# Altium schematic symbol library huan_basic.SchLib: 79 symbols
Pins are listed as number, name and electrical type; pins without a type are passive.

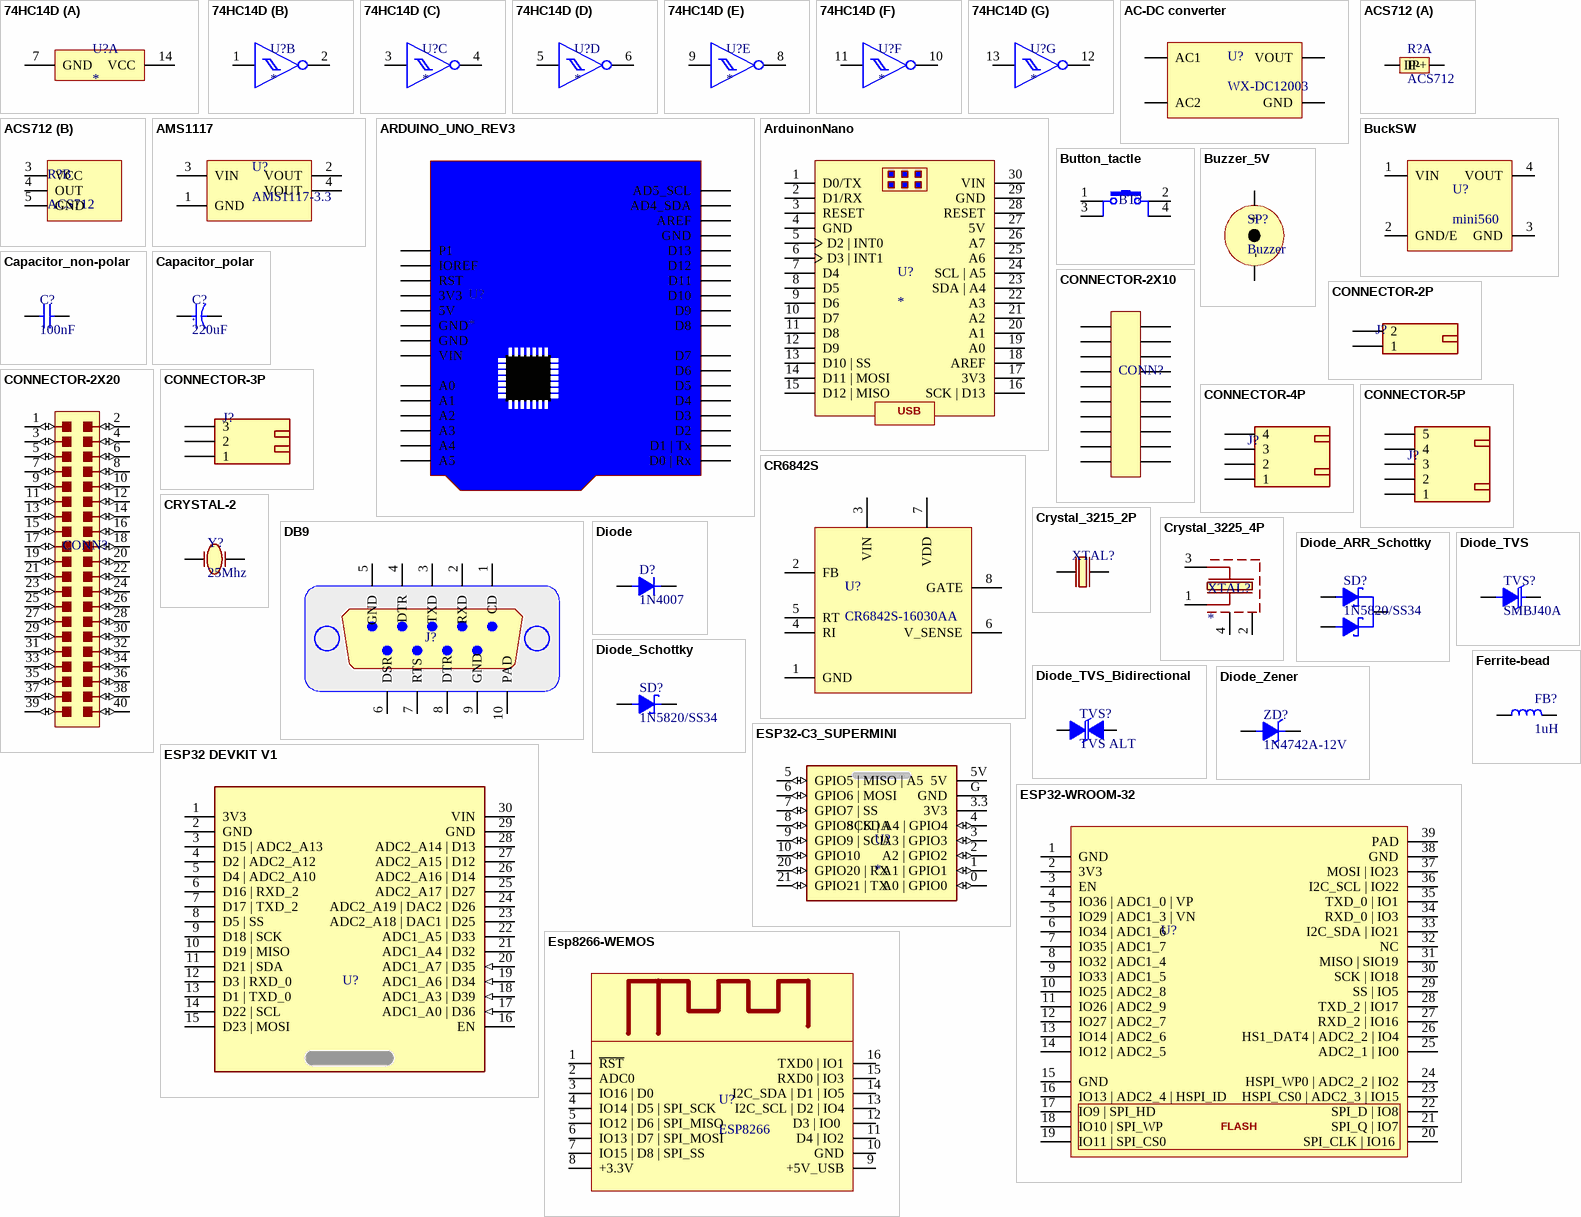
[diagram p0: symbols 74HC14D to Ferrite-bead]

## 74HC14D
designator U?
Inverter IC 6 Channel Schmitt Trigger 14-SOIC; MF: Toshiba; MP: 74HC14D; SnapEDA_Link: https://www.snapeda.com/parts/74HC14D/Toshiba+Semiconductor+and+Storage/view-part/?ref=snap; Availability: In Stock; Price: None; Package: SO14-14 Nexperia USA Inc.; Purchase-URL: https://pricing.snapeda.com/search/part/74HC14D/?ref=eda; Check_prices: https://www.snapeda.com/parts/74HC14D/Toshiba+Semiconductor+and+Storage/view-part/?ref=eda; Value: *
footprint SO14
part A pins: 7 GND, 14 VCC (power)
part B pins: 1 1A (power), 2 1Y (power)
part C pins: 3 2A (power), 4 2Y (power)
part D pins: 5 3A (power), 6 3Y (power)
part E pins: 8 4Y (power), 9 4A (power)
part F pins: 10 5Y (power), 11 5A (power)
part G pins: 12 6Y (power), 13 6A (power)

## AC-DC converter
designator U?, comment WX-DC12003
footprint WX-DC12003
pins: 1 AC1, 2 AC2, 3 GND, 4 VOUT

## ACS712
designator R?
footprint ACS712
part A pins: 1 IP+, 2 IP-
part B pins: 3 VCC, 4 OUT, 5 GND

## AMS1117
designator U?, comment AMS1117-3.3
footprint SOT223
pins: 1 GND, 2 VOUT, 3 VIN, 4 VOUT

## ARDUINO_UNO_REV3
designator U?
Microcontroller board based on the ATmega328P.; MF: Arduino; MP: ARDUINO UNO REV3; SnapEDA_Link: https://www.snapeda.com/parts/ARDUINO%20UNO%20REV3/Arduino/view-part/?ref=snap; Package: Non-Standard Arduino; Value: *; Check_prices: https://www.snapeda.com/parts/ARDUINO%20UNO%20REV3/Arduino/view-part/?ref=eda
footprint ARDUINO_ARDUINO_UNO_REV3
pins: 3V3 (power), 5V (power), A0 (power), A1 (power), A2 (power), A3 (power), A4 (power), A4_SDA AD4_SDA (power), A5 (power), A5_SCL AD5_SCL (power), AREF (power), D0 D0 | Rx (power), D1 D1 | Tx (power), D2 (power), D3 (power), D4 (power), D5 (power), D6 (power), D7 (power), D8 (power), D9 (power), D10 (power), D11 (power), D12 (power), D13 (power), GND_1 GND (power), GND_2 GND (power), GND_3 GND (power), IOREF (power), P1 (power), RST (power), VIN (power)

## ArduinonNano
designator U?
Small, complete, and breadboard-friendly board based on the ATmega328 (Arduino Nano 3.x).; MP: A000005; Check_prices: https://www.snapeda.com/parts/A000005/Arduino/view-part/?ref=eda; Value: *; Availability: In Stock; Price: None; Package: Non-Standard Arduino; SnapEDA_Link: https://www.snapeda.com/parts/A000005/Arduino/view-part/?ref=snap; Purchase-URL: https://pricing.snapeda.com/search/part/A000005/?ref=eda; MF: Arduino
footprint ARDUINO-NANO
pins: 1 D0/TX (power), 2 D1/RX (power), 3 RESET (power), 4 GND (power), 5 D2 | INT0 (power), 6 D3 | INT1 (oc), 7 D4 (power), 8 D5 (oc), 9 D6 (oc), 10 D7 (power), 11 D8 (power), 12 D9 (oc), 13 D10 | SS (oc), 14 D11 | MOSI (oc), 15 D12 | MISO (power), 16 SCK | D13 (power), 17 3V3 (power), 18 AREF (power), 19 A0 (power), 20 A1 (power), 21 A2 (power), 22 A3 (power), 23 SDA | A4 (power), 24 SCL | A5 (power), 25 A6 (power), 26 A7 (power), 27 5V (power), 28 RESET (power), 29 GND (power), 30 VIN (power)
text: USB

## BuckSW
designator U?, comment mini560
footprint BUCK-20V-3A
footprint mini560
pins: 1 VIN, 2 GND/E, 3 GND, 4 VOUT

## Button_tactle
designator BT?
footprint BUTTON-12X12MM
footprint BUTTON 6X6 SMD
pins: 1, 2, 3, 4

## Buzzer_5V
designator SP?, comment Buzzer
footprint Buzzer
pins: 1 +, 2 -

## Capacitor_non-polar
designator C?, comment 100nF
footprint C0603
footprint C1206
footprint C0805
footprint CAPACITOR-X2_10MM
footprint CAP-HV
footprint C1812
pins: 1, 2

## Capacitor_polar
designator C?, comment 220uF
footprint CAP-TH-6.3MM
footprint CAP-TH-8MM
footprint CAP-TH-10MM
footprint CAP-SMD-6.3MM
footprint CAP-SMD-8MM
footprint CAP-SMD-10MM
footprint CAP-TH-16MM
footprint C2917
pins: 1, 2
text: +

## CONNECTOR-2P
designator J?
footprint KF5.08-2P
footprint TERMINAL-7.62-2
footprint TERMINAL-5.08-2
pins: 1, 2

## CONNECTOR-2X10
designator CONN?
footprint 2.54 2x10
pins: 1 (power), 2 (power), 3 (power), 4 (power), 5 (power), 6 (power), 7 (power), 8 (power), 9 (power), 10 (power), 11 (power), 12 (power), 13 (power), 14 (power), 15 (power), 16 (power), 17 (power), 18 (power), 19 (power), 20 (power)

## CONNECTOR-2X20
designator CONN?
footprint 2.54 2x20
pins: 1 (io), 2 (io), 3 (io), 4 (io), 5 (io), 6 (io), 7 (io), 8 (io), 9 (io), 10 (io), 11 (io), 12 (io), 13 (io), 14 (io), 15 (io), 16 (io), 17 (io), 18 (io), 19 (io), 20 (io), 21 (io), 22 (io), 23 (io), 24 (io), 25 (io), 26 (io), 27 (io), 28 (io), 29 (io), 30 (io), 31 (io), 32 (io), 33 (io), 34 (io), 35 (io), 36 (io), 37 (io), 38 (io), 39 (io), 40 (io)

## CONNECTOR-3P
designator J?  (value not drawn)
footprint KF5.08-3p
footprint XH-2.54-3-V
footprint ED5.08-3P
pins: 1, 2, 3

## CONNECTOR-4P
designator J?
footprint XH-2.54-4-R
footprint CH-3.96-4-V
pins: 1, 2, 3, 4

## CONNECTOR-5P
designator J?
footprint XH-2.54-5-R
pins: 1, 2, 3, 4, 5

## CR6842S
designator U?, comment CR6842S-16030AA
footprint SOP-8
pins: 1 GND, 2 FB, 3 VIN, 4 RI, 5 RT, 6 V_SENSE, 7 VDD, 8 GATE

## CRYSTAL-2
designator Y?, comment 25Mhz
footprint HC49-SMD
pins: 1, 2

## Crystal_3215_2P
designator XTAL?  (value not drawn)
LOW FREQUENCY CRYSTAL; MF: Micro Crystal; MP: CM7V-T1A-LOW-ESR-32.768KHZ-12.5PF-20-TA-QC; Package: SMD-2 Micro Crystal; Value: *; Check_prices: https://www.snapeda.com/parts/CM7V-T1A-LOW-ESR-32.768KHZ-12.5PF-20-TA-QC/Micro+Crystal/view-part/?ref=eda; SnapEDA_Link: https://www.snapeda.com/parts/CM7V-T1A-LOW-ESR-32.768KHZ-12.5PF-20-TA-QC/Micro+Crystal/view-part/?ref=snap; Availability: In Stock; Purchase-URL: https://pricing.snapeda.com/search/part/CM7V-T1A-LOW-ESR-32.768KHZ-12.5PF-20-TA-QC/?ref=eda; Price: None
footprint XTAL 2P 3215
pins: 1, 2

## Crystal_3225_4P
designator XTAL?
25 MHz Â±10ppm Crystal 18pF 40 Ohms 4-SMD, No Lead; MP: TSX-3225 25.0000MF10P-C0; MF: EPSON; Purchase-URL: https://pricing.snapeda.com/search/part/TSX-3225 25.0000MF10P-C0/?ref=eda; Package: SMD-4 EPSON; Value: *; Availability: In Stock; Price: None; SnapEDA_Link: https://www.snapeda.com/parts/TSX-3225%2025.0000MF10P-C0/EPSON/view-part/?ref=snap; Check_prices: https://www.snapeda.com/parts/TSX-3225%2025.0000MF10P-C0/EPSON/view-part/?ref=eda
footprint XTAL 4P 3225
pins: 1, 2 GND (power), 3 2, 4 GND (power)

## DB9
designator J?, comment DB9 connector  (value not drawn)
footprint DB9
pins: 1 CD, 2 RXD, 3 TXD, 4 DTR, 5 GND, 6 DSR, 7 RTS, 8 DTR, 9 GND, 10 PAD

## Diode
designator D?, comment 1N4007
footprint SOD-123F
footprint LL-34(MiniMELF)
footprint DO-214AC(SMA)
footprint DO-214AB(SMC)
footprint DO-41_V
footprint R-6
footprint DO-2A
footprint SOD-123
footprint SOD-323
pins: 1 A, 2 K

## Diode_ARR_Schottky
designator SD?, comment 1N5820/SS34
footprint TO-252-2
pins: 1 A, 2 K, 3 A

## Diode_Schottky
designator SD?, comment 1N5820/SS34
footprint SOD-123F
footprint DO-214AC(SMA)
footprint DO-214AB(SMC)
pins: 1 A, 2 K

## Diode_TVS
designator TVS?, comment SMBJ40A
footprint DO-214AC(SMA)
footprint DO-214AB(SMC)
footprint SOD-323
footprint SOD-123
pins: 1 A, 2 K

## Diode_TVS_Bidirectional
designator TVS?, comment TVS ALT
footprint DO-214AC(SMA)
footprint DO-214AB(SMC)
footprint SOD-323
pins: 1 A, 2 K

## Diode_Zener
designator ZD?, comment 1N4742A-12V
footprint SOD-123F
footprint LL-34(MiniMELF)
pins: 1 A, 2 K

## ESP32 DEVKIT V1
designator U?  (value not drawn)
The DOIT ESP32 DevKit V1 is probably the most famous development board based on the equally popular ESP32 Wi-Fi SoC from Espressif. In fact, the DevKit V1 is more popular than any official board from Espressif.
footprint ESP32 DEVKIT V1
pins: 1 3V3, 2 GND, 3 D15 | ADC2_A13, 4 D2 | ADC2_A12, 5 D4 | ADC2_A10, 6 D16 | RXD_2, 7 D17 | TXD_2, 8 D5 | SS, 9 D18 | SCK, 10 D19 | MISO, 11 D21 | SDA, 12 D3 | RXD_0, 13 D1 | TXD_0, 14 D22 | SCL, 15 D23 | MOSI, 16 EN, 17 ADC1_A0 | D36 (in), 18 ADC1_A3 | D39 (in), 19 ADC1_A6 | D34 (in), 20 ADC1_A7 | D35 (in), 21 ADC1_A4 | D32, 22 ADC1_A5 | D33, 23 ADC2_A18 | DAC1 | D25, 24 ADC2_A19 | DAC2 | D26, 25 ADC2_A17 | D27, 26 ADC2_A16 | D14, 27 ADC2_A15 | D12, 28 ADC2_A14 | D13, 29 GND, 30 VIN

## ESP32-C3_SUPERMINI
designator U?
Super tiny ESP32-C3 board; MF: Espressif Systems; MP: ESP32-C3 SuperMini_TH; SnapEDA_Link: https://www.snapeda.com/parts/ESP32-C3%20SuperMini_TH/Espressif+Systems/view-part/?ref=snap; Package: Package; Value: *; Check_prices: https://www.snapeda.com/parts/ESP32-C3%20SuperMini_TH/Espressif+Systems/view-part/?ref=eda
footprint MODULE_ESP32-C3_SUPERMINI
pins: 0 A0 | GPIO0 (io), 1 A1 | GPIO1 (io), 2 A2 | GPIO2 (io), 3 A3 | GPIO3 (io), 3.3 3V3 (power), 4 SCK | A4 | GPIO4 (io), 5 GPIO5 | MISO | A5 (io), 5V (power), 6 GPIO6 | MOSI (io), 7 GPIO7 | SS (io), 8 GPIO8 | SDA (io), 9 GPIO9 | SCL (io), 10 GPIO10 (io), 20 GPIO20 | RX (io), 21 GPIO21 | TX (io), G GND (power)

## ESP32-WROOM-32
designator U?
MF: {'manufacturer': u'Espressif Systems'}; MP: ESP32-S3-WROOM-1U-N4R2; Package: None; Price: None; Value: *; Availability: Unavailable
footprint ESP32-VWROOM-32
pins: 1 GND (power), 2 3V3 (power), 3 EN (power), 4 IO36 | ADC1_0 | VP (power), 5 IO29 | ADC1_3 | VN (power), 6 IO34 | ADC1_6 (power), 7 IO35 | ADC1_7 (power), 8 IO32 | ADC1_4 (power), 9 IO33 | ADC1_5 (power), 10 IO25 | ADC2_8 (power), 11 IO26 | ADC2_9 (power), 12 IO27 | ADC2_7 (power), 13 IO14 | ADC2_6 (power), 14 IO12 | ADC2_5 (power), 15 GND (power), 16 IO13 | ADC2_4 | HSPI_ID (power), 17 IO9 | SPI_HD (power), 18 IO10 | SPI_WP (power), 19 IO11 | SPI_CS0 (power), 20 SPI_CLK | IO16  (power), 21 SPI_Q | IO7 (power), 22 SPI_D | IO8 (power), 23 HSPI_CS0 | ADC2_3 | IO15 (power), 24 HSPI_WP0 | ADC2_2 | IO2 (power), 25  ADC2_1 | IO0 (power), 26 HS1_DAT4 | ADC2_2 | IO4 (power), 27 RXD_2 | IO16 (power), 28 TXD_2 | IO17 (power), 29 SS | IO5 (power), 30 SCK | IO18 (power), 31 MISO | SIO19 (power), 32 NC (power), 33 I2C_SDA | IO21 (power), 34 RXD_0 | IO3 (power), 35 TXD_0 | IO1 (power), 36 I2C_SCL | IO22 (power), 37 MOSI | IO23 (power), 38 GND (power), 39 PAD (power)
text: FLASH

## Esp8266-WEMOS
designator U?, comment ESP8266
footprint WEMOS-D1-MINI
pins: 1 ~{RST}, 2 ADC0, 3 IO16 | D0, 4 IO14 | D5 | SPI_SCK, 5 IO12 | D6 | SPI_MISO, 6 IO13 | D7 | SPI_MOSI, 7 IO15 | D8 | SPI_SS, 8 +3.3V, 9 +5V_USB, 10 GND, 11 D4 | IO2, 12 D3 | IO0 , 13 I2C_SCL | D2 | IO4, 14 I2C_SDA | D1 | IO5, 15 RXD0 | IO3, 16 TXD0 | IO1

## Ferrite-bead
designator FB?, comment 1uH
footprint L0805
footprint L0603
pins: 1, 2

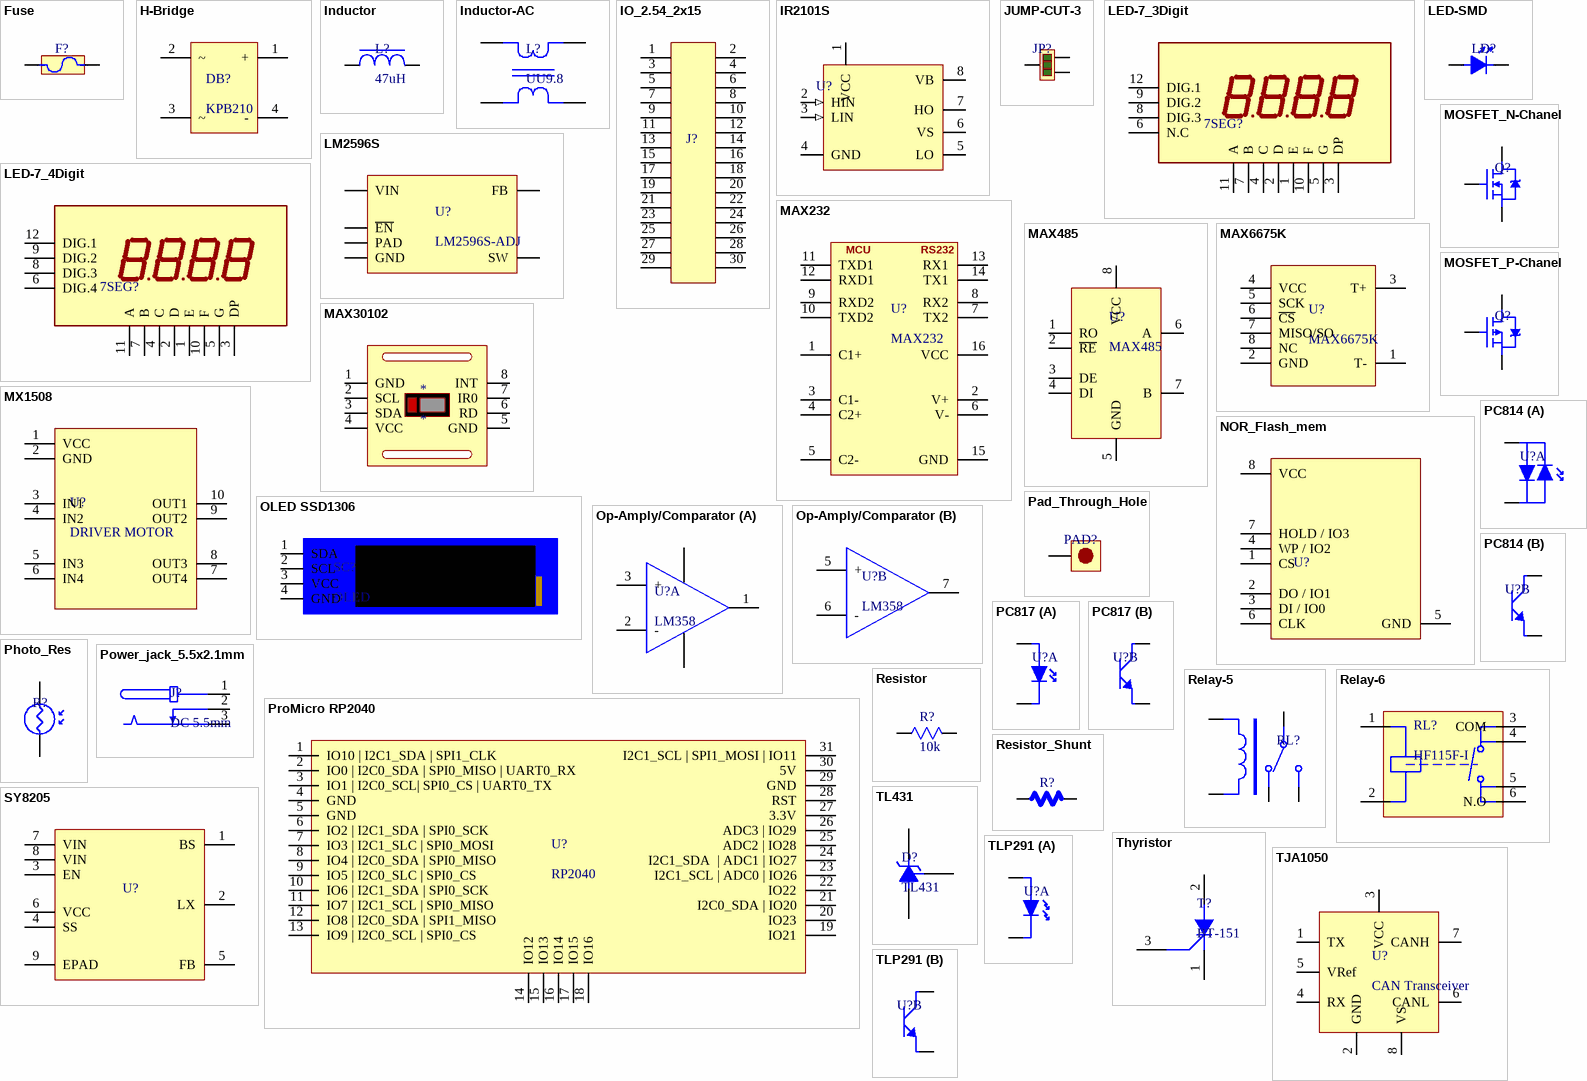
[diagram p1: symbols Fuse to TLP291]

## Fuse
designator F?, comment 6V/2A  (value not drawn)
footprint F2920
footprint FUSE-TH-5*20
footprint FUSE-3.15A-250V
footprint F1206
pins: 1, 2

## H-Bridge
designator DB?, comment KPB210
footprint KBP210
footprint ABS210
pins: 1 +, 2 ~, 3 ~, 4 -

## Inductor
designator L?, comment 47uH
footprint CDRH127-XXX_12*12*8MM
footprint INDUCTOR-TH-8mm
footprint AMPLF-1055
footprint PNR3015
pins: 1, 2

## Inductor-AC
designator L?, comment UU9.8
footprint UU9.8-7X8MM
pins: 1, 2, 3, 4

## IO_2.54_2x15
designator J?
footprint XH2.54-2X15
pins: 1 (power), 2 (power), 3 (power), 4 (power), 5 (power), 6 (power), 7 (power), 8 (power), 9 (power), 10 (power), 11 (power), 12 (power), 13 (power), 14 (power), 15 (power), 16 (power), 17 (power), 18 (power), 19 (power), 20 (power), 21 (power), 22 (power), 23 (power), 24 (power), 25 (power), 26 (power), 27 (power), 28 (power), 29 (power), 30 (power)

## IR2101S
designator U?
footprint SOP-8
pins: 1 VCC, 2 HIN (in), 3 LIN (in), 4 GND, 5 LO, 6 VS, 7 HO, 8 VB

## JUMP-CUT-3
designator JP?, comment JUMP  (value not drawn)
footprint JUMP-CUT
pins: 1, 2, 3

## LED-7_3Digit
designator 7SEG?  (value not drawn)
Digit 7 Segment Display; MF: Ningbo Flying Electronics; MP: NFD-3641AH-11; Package: Package; Price: None; Value: *; SnapEDA_Link: https://www.snapeda.com/parts/NFD-3641AH-11/Ningbo+Flying+Electronics/view-part/?ref=snap; Availability: Not in stock; Check_prices: https://www.snapeda.com/parts/NFD-3641AH-11/Ningbo+Flying+Electronics/view-part/?ref=eda
footprint LED-5361
pins: 1 E, 2 D, 3 DP, 4 C, 5 G, 6 N.C, 7 B, 8 DIG.3, 9 DIG.2, 10 F, 11 A, 12 DIG.1

## LED-7_4Digit
designator 7SEG?  (value not drawn)
0.36(9.20mm)Four Digit 7 Segment Display; MF: Ningbo Flying Electronics; MP: NFD-3641AH-11; Package: Package; Price: None; Value: *; SnapEDA_Link: https://www.snapeda.com/parts/NFD-3641AH-11/Ningbo+Flying+Electronics/view-part/?ref=snap; Availability: Not in stock; Check_prices: https://www.snapeda.com/parts/NFD-3641AH-11/Ningbo+Flying+Electronics/view-part/?ref=eda
footprint LED-3641A
pins: 1 E, 2 D, 3 DP, 4 C, 5 G, 6 DIG.4, 7 B, 8 DIG.3, 9 DIG.2, 10 F, 11 A, 12 DIG.1

## LED-SMD
designator LD?
footprint LED0603
footprint LED0805
pins: 1, 2

## LM2596S
designator U?, comment LM2596S-ADJ
footprint TO-263-5
pins: 1 VIN, 2 SW, 3 GND, 4 FB, 5 ~{EN}, 6 PAD

## MAX232
designator U?
footprint SOP-16
footprint DIP-16
pins: 1 C1+, 2 V+, 3 C1-, 4 C2+, 5 C2-, 6 V-, 7 TX2, 8 RX2, 9 RXD2, 10 TXD2, 11 TXD1, 12 RXD1, 13 RX1, 14 TX1, 15 GND, 16 VCC
text: MCU; RS232

## MAX485
designator U?
footprint SOP-8
pins: 1 RO, 2 ~{RE}, 3 DE, 4 DI, 5 GND, 6 A, 7 B, 8 VCC

## MAX6675K
designator U?
Thermal coupler
footprint SOP-8
pins: 1 T-, 2 GND, 3 T+, 4 VCC, 5 SCK, 6 ~{CS}, 7 MISO/SO, 8 NC

## MAX30102
designator *
footprint MAX30102-MODULE
pins: 1 GND, 2 SCL, 3 SDA, 4 VCC, 5 GND, 6 RD, 7 IR0, 8 INT

## MOSFET_N-Chanel
designator Q?
footprint TO-252-2
footprint TO-220
pins: 1 G, 2 D, 3 S

## MOSFET_P-Chanel
designator Q?
footprint TO-252-2
footprint TO-220
pins: 1 G, 2 D, 3 S

## MX1508
designator U?, comment DRIVER MOTOR
footprint MX1508
pins: 1 VCC, 2 GND, 3 IN1, 4 IN2, 5 IN3, 6 IN4, 7 OUT4, 8 OUT3, 9 OUT2, 10 OUT1

## NOR_Flash_mem
designator U?  (value not drawn)
footprint SOP-8
pins: 1 CS, 2 DO / IO1, 3 DI / IO0, 4 WP / IO2, 5 GND, 6 CLK, 7 HOLD / IO3, 8 VCC

## OLED SSD1306
designator SC?, comment OLED
footprint OLED 0.91 INCH 128X32
pins: 1 SDA, 2 SCL, 3 VCC, 4 GND

## Op-Amply/Comparator
designator U?, comment LM358
footprint SOP-8
footprint DIP-8
part A pins: 1, 2 -, 3 +, 4, 8
part B pins: 5 +, 6 -, 7

## Pad_Through_Hole
designator PAD?
footprint THROUGH_HOLE_MEDIUM
footprint THROUGH_HOLE_SMALL
pins: 1

## PC814
designator U?  (value not drawn)
footprint SMD-4
part A pins: 1 A, 2 K
part B pins: 3 E, 4 C

## PC817
designator U?  (value not drawn)
footprint SMD-4
footprint DIP-4
part A pins: 1 A, 2 K
part B pins: 3 E, 4 C

## Photo_Res
designator R?  (value not drawn)
footprint PHOTORESISTOR-5MM
pins: 1, 2

## Power_jack_5.5x2.1mm
designator J?, comment DC 5.5mm
footprint DC-5.5X2.1MM
pins: 1, 2, 3

## ProMicro RP2040
designator U?, comment RP2040
footprint RP2040-MICROPRO
pins: 1 IO10 | I2C1_SDA | SPI1_CLK (power), 2 IO0 | I2C0_SDA | SPI0_MISO | UART0_RX  (power), 3 IO1 | I2C0_SCL| SPI0_CS | UART0_TX  (power), 4 GND (power), 5 GND (power), 6 IO2 | I2C1_SDA | SPI0_SCK  (power), 7 IO3 | I2C1_SLC | SPI0_MOSI (power), 8 IO4 | I2C0_SDA | SPI0_MISO (power), 9 IO5 | I2C0_SLC | SPI0_CS (power), 10 IO6 | I2C1_SDA | SPI0_SCK (power), 11 IO7 | I2C1_SCL | SPI0_MISO (power), 12 IO8 | I2C0_SDA | SPI1_MISO (power), 13 IO9 | I2C0_SCL | SPI0_CS (power), 14 IO12 (power), 15 IO13 (power), 16 IO14 (power), 17 IO15 (power), 18 IO16 (power), 19 IO21 (power), 20 IO23 (power), 21 I2C0_SDA | IO20 (power), 22 IO22 (power), 23 I2C1_SCL | ADC0 | IO26 (power), 24 I2C1_SDA  | ADC1 | IO27 (power), 25 ADC2 | IO28 (power), 26 ADC3 | IO29 (power), 27 3.3V (power), 28 RST (power), 29 GND (power), 30 5V (power), 31 I2C1_SCL | SPI1_MOSI | IO11 (power)

## Relay-5
designator RL?
footprint SRD-05VDC-SL-C
pins: 1, 2, 3 COM, 4, 5

## Relay-6
designator RL?, comment HF115F-I
footprint HF115F-I
pins: 1, 2, 3 COM, 4, 5, 6 N.O

## Resistor
designator R?, comment 10k
footprint R0603
footprint R0805
footprint R1206
footprint RES_TH-1/4W
footprint R2512
pins: 1, 2

## Resistor_Shunt
designator R?
footprint R2512
footprint R1206
pins: 1, 2

## SY8205
designator U?
BUCK
footprint SOP-8-PAD
pins: 1 BS, 2 LX, 3 EN, 4 SS, 5 FB, 6 VCC, 7 VIN, 8 VIN, 9 EPAD

## Thyristor
designator T?, comment BT-151
footprint TO-220
pins: 1 A, 2 A, 3 A

## TJA1050
designator U?, comment CAN Transceiver
footprint SOP-8
pins: 1 TX, 2 GND, 3 VCC, 4 RX, 5 VRef, 6 CANL, 7 CANH, 8 VS

## TL431
designator D?
footprint SOT-23
pins: 1 A, 2 K, 3 K

## TLP291
designator U?, comment TLP291-1  (value not drawn)
footprint SOP-4
part A pins: 1 A, 2 K
part B pins: 3 E, 4 C

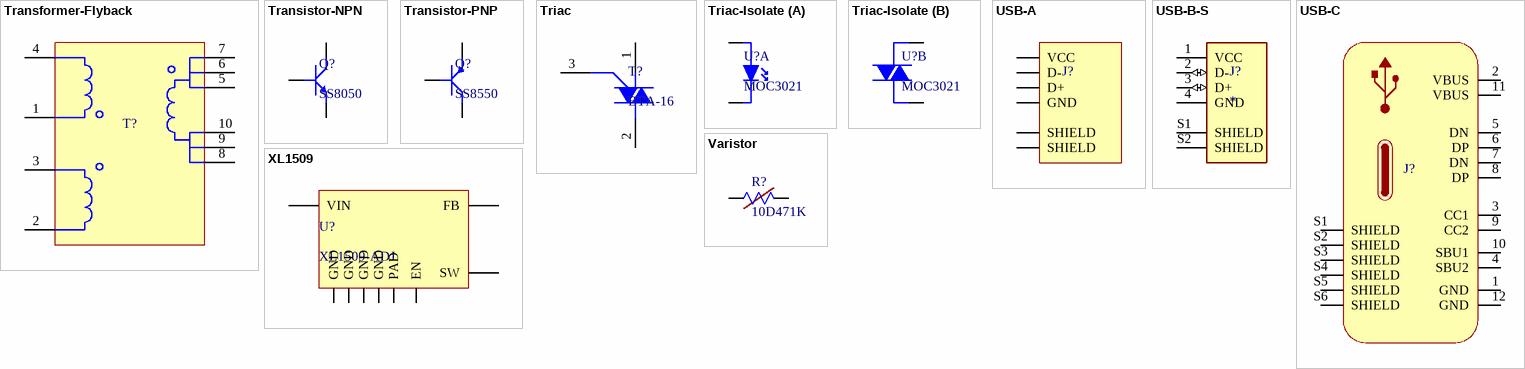
[diagram p2: symbols Transformer-Flyback to XL1509]

## Transformer-Flyback
designator T?
footprint EE.27
pins: 1, 2, 3, 4, 5, 6, 7, 8, 9, 10

## Transistor-NPN
designator Q?, comment SS8050
footprint SOT-23
pins: 1 B, 2 E, 3 C

## Transistor-PNP
designator Q?, comment SS8550
footprint SOT-23
pins: 1 B, 2 E, 3 C

## Triac
designator T?, comment BTA-16
footprint TO-220
pins: 1 A, 2 A, 3 A

## Triac-Isolate
designator U?, comment MOC3021
footprint DIP-6
part A pins: 1 A, 2 K
part B pins: 4, 6

## USB-A
designator J?  (value not drawn)
USB-A _USB TYPE-A_ USB 2.0 Receptacle Connector 4 Position Through Hole, Right Angle; MF: Samtec; MP: USBR-A-S-F-O-TH; SnapEDA_Link: https://www.snapeda.com/parts/USBR-A-S-F-O-TH/Samtec%20Inc./view-part/932528/?ref=snap; Value: *; Toby_UK-Purchase-URL: https://snapeda.com/shop?store=Toby+UK&id=932528; Package: None; DigiKey-Purchase-URL: https://snapeda.com/shop?store=DigiKey&id=932528; Price: None; Availability: Unavailable
footprint SAMTEC_USBR-A-S-F-O-TH
pins: 01 VCC (power), 02 D- (power), 03 D+ (power), 04 GND (power), S1 SHIELD, S2 SHIELD

## USB-B-S
designator J?
USB-B (USB TYPE-B) USB 2.0 Receptacle Connector 4 Position Through Hole, Right Angle; MF: Samtec; MP: USB-B-S-F-W-TH-TR; SnapEDA_Link: https://www.snapeda.com/parts/USB-B-S-F-W-TH-TR/Samtec/view-part/?ref=snap; Package: None; Value: *; Check_prices: https://www.snapeda.com/parts/USB-B-S-F-W-TH-TR/Samtec/view-part/?ref=eda
footprint SAMTEC_USB-B-S-X-X-TH
pins: 1 VCC (power), 2 D- (io), 3 D+ (io), 4 GND (power), S1 SHIELD, S2 SHIELD

## USB-C
designator J?
USB-C (USB TYPE-C) USB 2.0 Receptacle Connector 24 (16+8 Dummy) Position Surface Mount, Right Angle; Through Hole; MP: DX07S016JA1R1500; Package: None; Value: *; Price: None; Availability: Unavailable
footprint JAE_DX07S016JA1R1500
pins: 1 GND (power), 2 VBUS (power), 3 CC1, 4 SBU2, 5 DN, 6 DP, 7 DN, 8 DP, 9 CC2, 10 SBU1, 11 VBUS (power), 12 GND (power), S1 SHIELD, S2 SHIELD, S3 SHIELD, S4 SHIELD, S5 SHIELD, S6 SHIELD

## Varistor
designator R?, comment 10D471K
footprint 10D471
pins: 1, 2

## XL1509
designator U?, comment XL1509-ADJ
BUCK
footprint SOP-8-PAD
pins: 1 VIN, 2 SW, 3 FB, 4 EN, 5 GND, 6 GND, 7 GND, 8 GND, 9 PAD